# Altium footprint library WE_FB.PcbLib: 1 footprints
Each footprint in its own frame and in the unit in brackets; x right, y up, seen from the top. Pads: shape width x height; smd on the part's side, far side on the other; paste and mask are expansions set on the pad; w line width, h text height; cw(c..) or ccw(c..) is an arc to the next point about the centre after c.
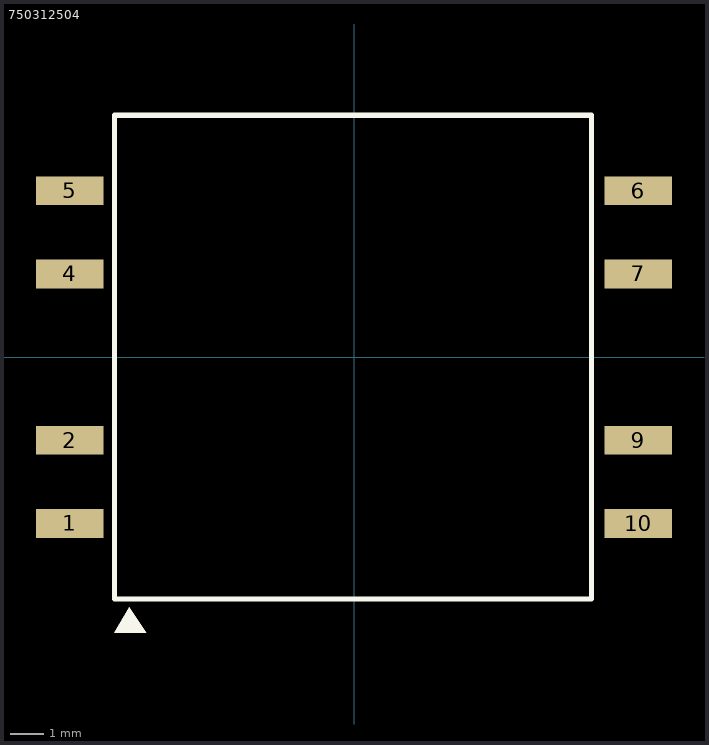
[diagram p0: the footprint, top view; thin cyan lines are the x and y axes]

## 750312504 [mil]
pads (8):
  rect 80x34 smd: 1(-335,-196) 2(-335,-98) 4(-335,98) 5(-335,196) 6(335,196) 7(335,98) 9(335,-98) 10(335,-196)
Top Overlay:
  region: -282.5,-325 -245,-325 -265,-295
  lines w6: -282.5,-285 280,-285 280,285 -282.5,285 -282.5,-285
3D body "WE_750312504.stp": height 500, standoff 0, extent -367.12,-282.68 367.13,282.68